# EAGLE library part MPU6050 (library dawidkulpa_dev)
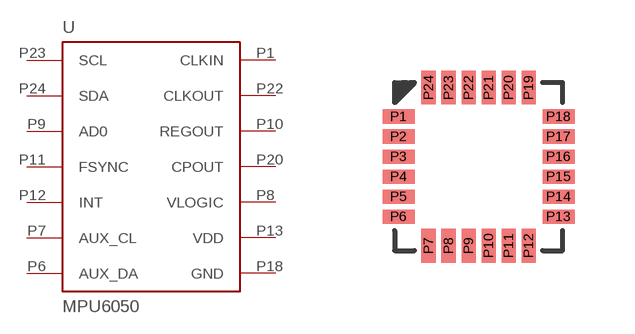
[diagram p23: symbol with the pads of LQFN24; footprint LQFN24]

Designator prefix -

## MPU6050  [LQFN24]
P1  CLKIN
P6  AUX_DA
P7  AUX_CL
P8  VLOGIC
P9  AD0
P10  REGOUT
P11  FSYNC
P12  INT
P13  VDD
P18  GND
P20  CPOUT
P22  CLKOUT
P23  SCL
P24  SDA

## Footprint LQFN24 (pad centres in mm)
smd 0.8 x 0.35: P1 -2,1.25; P2 -2,0.75; P3 -2,0.25; P4 -2,-0.25; P5 -2,-0.75; P6 -2,-1.25; P13 2,-1.25; P14 2,-0.75; P15 2,-0.25; P16 2,0.25; P17 2,0.75; P18 2,1.25
smd 0.35 x 0.85: P7 -1.25,-1.975; P8 -0.75,-1.975; P9 -0.25,-1.975; P10 0.25,-1.975; P11 0.75,-1.975; P12 1.25,-1.975; P19 1.25,1.975; P20 0.75,1.975; P21 0.25,1.975; P22 -0.25,1.975; P23 -0.75,1.975; P24 -1.25,1.975